# Altium schematic symbol library Custom.SCHLIB: 11 symbols
Pins are listed as number, name and electrical type; pins without a type are passive.

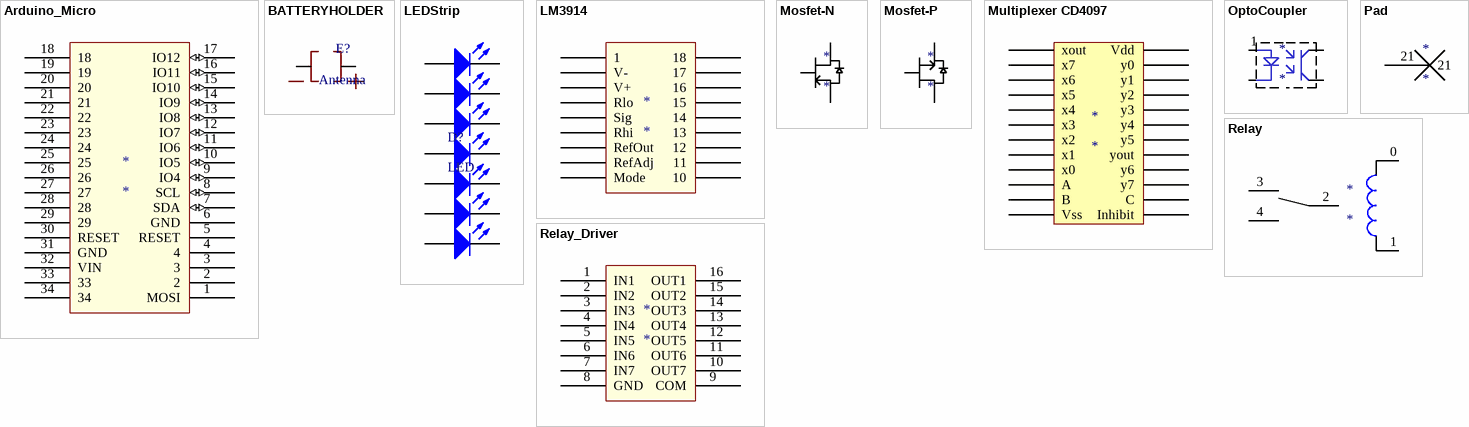
[diagram p0: symbols Arduino_Micro to Relay_Driver]

## Arduino_Micro
designator *
footprint DIP34
pins: 1 MOSI, 2, 3, 4, 5 RESET, 6 GND, 7 SDA (io), 8 SCL (io), 9 IO4 (io), 10 IO5 (io), 11 IO6 (io), 12 IO7 (io), 13 IO8 (io), 14 IO9 (io), 15 IO10 (io), 16 IO11 (io), 17 IO12 (io), 18, 19, 20, 21, 22, 23, 24, 25, 26, 27, 28, 29, 30 RESET, 31 GND, 32 VIN, 33, 34

## BATTERYHOLDER
designator E?, comment Antenna
footprint 18650_PCB_HOLDER
footprint 18650Holder2; pin to pad N>0 P>1
footprint 18650_PCB_HOLDER
pins: N, P

## LEDStrip
designator D?, comment LED
footprint LED Strip
pins: 1 A, 2 K, 3 A, 4 K, 5 A, 6 K, 7 A, 8 K, 9 A, 10 K, 11 A, 12 K, 13 A, 14 K

## LM3914
designator *
footprint DIP18
pins: 1, 2 V-, 3 V+, 4 Rlo, 5 Sig, 6 Rhi, 7 RefOut, 8 RefAdj, 9 Mode, 10, 11, 12, 13, 14, 15, 16, 17, 18
2 alternate drawings of the same symbol

## Mosfet-N
designator *
footprint MOSFET; pin to pad 1>4 2>5 3>1
pins: 1 Gate, 2 Drain, 3 Source

## Mosfet-P
designator *
footprint MOSFET; pin to pad 1>4 2>1 3>5
pins: 1, 2, 3

## Multiplexer CD4097
designator *
footprint SOIC24; pin to pad A>10 B>11 C>14 Inhibit>13 Vdd>24 Vss>12 x0>9 x1>8 x2>7 x3>6 x4>5 x5>4 x6>3 x7>2 xout>1 y0>23 y1>22 y2>21 y3>20 y4>19 y5>18 y6>16 y7>15 yout>17
pins: A, B, C, Inhibit, Vdd, Vss, x0, x1, x2, x3, x4, x5, x6, x7, xout, y0, y1, y2, y3, y4, y5, y6, y7, yout

## OptoCoupler
designator *
footprint SMDIP4
pins: 1, 2, 3, 4

## Pad
designator *
footprint Pad_ThroughHole_60mil
pins: 21

## Relay
designator *
footprint Relay
pins: 0, 1, 2, 3, 4

## Relay_Driver
designator *
footprint TSSOP16
pins: 1 IN1, 2 IN2, 3 IN3, 4 IN4, 5 IN5, 6 IN6, 7 IN7, 8 GND, 9 COM, 10 OUT7, 11 OUT6, 12 OUT5, 13 OUT4, 14 OUT3, 15 OUT2, 16 OUT1